# Altium footprint library Connecteur.PcbLib: 164 footprints (part 8 of 11)
Each footprint in its own frame and in the unit in brackets; x right, y up, seen from the top. Pads: shape width x height; smd on the part's side, far side on the other; paste and mask are expansions set on the pad; w line width, h text height; cw(c..) or ccw(c..) is an arc to the next point about the centre after c.
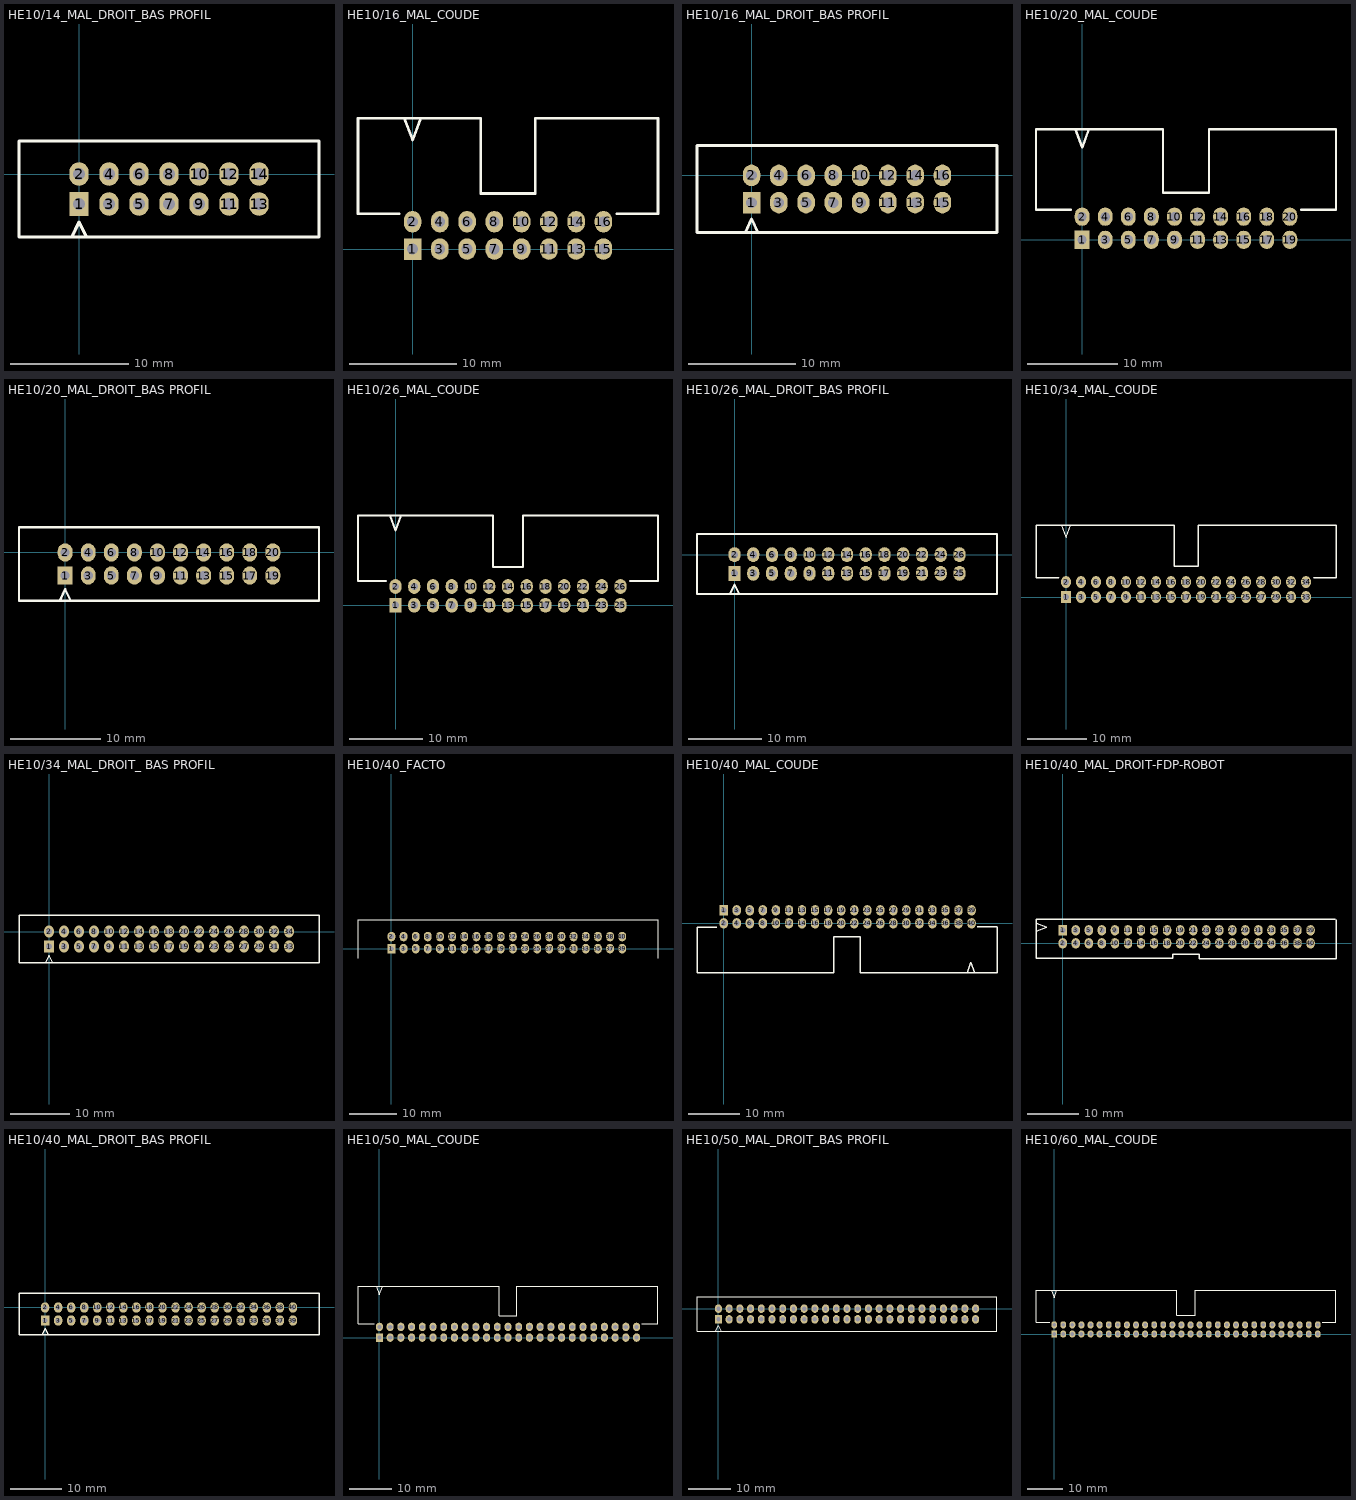
[diagram p7: the footprints below, top view; thin cyan lines are the x and y axes]

## HE10/14_MAL_DROIT_BAS PROFIL [mm] "Connector; HE10; 14 Position; Male; Right Low Profile; Pin Spacing=2.54mm"
height 9
pads (14):
  rect 1.63x2 hole 1: 1(0,-2.54)
  oval 1.63x2 hole 1: 2(0,0) 3(2.54,-2.54) 4(2.54,0) 5(5.08,-2.54) 6(5.08,0) 7(7.62,-2.54) 8(7.62,0) 9(10.16,-2.54) 10(10.16,0) 11(12.7,-2.54) 12(12.7,0) 13(15.24,-2.54) 14(15.24,0)
Top Overlay:
  lines w0.254: -0.6,-5.33 -0.004,-4.064 0,-4.064 0.6,-5.28 ; -5.08,-5.33 20.32,-5.33 20.32,2.79 -5.08,2.79 -5.08,-5.33

## HE10/16_MAL_COUDE [mm] "Connector; HE10; 16 Position; Male; Right Angle; Pin Spacing=2.54mm"
height 9
pads (16):
  rect 1.63x2 hole 1: 1(0,0)
  oval 1.63x2 hole 1: 2(0,2.54) 3(2.54,0) 4(2.54,2.54) 5(5.08,0) 6(5.08,2.54) 7(7.62,0) 8(7.62,2.54) 9(10.16,0) 10(10.16,2.54) 11(12.7,0) 12(12.7,2.54) 13(15.24,0) 14(15.24,2.54) 15(17.78,0) 16(17.78,2.54)
Top Overlay:
  lines w0.254: -1.27,3.29 -5.08,3.29 -5.08,12.18 6.35,12.18 6.35,5.18 11.43,5.18 11.43,12.18 22.86,12.18 22.86,3.29 19.05,3.29 ; -0.762,12.18 0,10.148 0.762,12.18

## HE10/16_MAL_DROIT_BAS PROFIL [mm] "Connector; HE10; 16 Position; Male; Right Low Profile; Pin Spacing=2.54mm"
height 9
pads (16):
  rect 1.63x2 hole 1: 1(0,-2.54)
  oval 1.63x2 hole 1: 2(0,0) 3(2.54,-2.54) 4(2.54,0) 5(5.08,-2.54) 6(5.08,0) 7(7.62,-2.54) 8(7.62,0) 9(10.16,-2.54) 10(10.16,0) 11(12.7,-2.54) 12(12.7,0) 13(15.24,-2.54) 14(15.24,0) 15(17.78,-2.54) 16(17.78,0)
Top Overlay:
  lines w0.254: -0.6,-5.33 -0.004,-4.064 0,-4.064 0.6,-5.28 ; -5.08,-5.33 -5.08,2.79 22.86,2.79 22.86,-5.33 -5.08,-5.33

## HE10/20_MAL_COUDE [mm] "Connector; HE10; 20 Position; Male; Right Angle; Pin Spacing=2.54mm"
height 9
pads (20):
  rect 1.63x2 hole 1: 1(0,0)
  oval 1.63x2 hole 1: 2(0,2.54) 3(2.54,0) 4(2.54,2.54) 5(5.08,0) 6(5.08,2.54) 7(7.62,0) 8(7.62,2.54) 9(10.16,0) 10(10.16,2.54) 11(12.7,0) 12(12.7,2.54) 13(15.24,0) 14(15.24,2.54) 15(17.78,0) 16(17.78,2.54) 17(20.32,0) 18(20.32,2.54) 19(22.86,0) 20(22.86,2.54)
Top Overlay:
  lines w0.254: -1.27,3.29 -5.08,3.29 -5.08,12.18 8.89,12.18 8.89,5.18 13.97,5.18 13.97,12.18 27.94,12.18 27.94,3.29 24.13,3.29 ; -0.762,12.18 0,10.148 0.762,12.18

## HE10/20_MAL_DROIT_BAS PROFIL [mm] "Connector; HE10; 20 Position; Male; Right Low Profile; Pin Spacing=2.54mm"
height 9
pads (20):
  rect 1.63x2 hole 1: 1(0,-2.54)
  oval 1.63x2 hole 1: 2(0,0) 3(2.54,-2.54) 4(2.54,0) 5(5.08,-2.54) 6(5.08,0) 7(7.62,-2.54) 8(7.62,0) 9(10.16,-2.54) 10(10.16,0) 11(12.7,-2.54) 12(12.7,0) 13(15.24,-2.54) 14(15.24,0) 15(17.78,-2.54) 16(17.78,0) 17(20.32,-2.54) 18(20.32,0) 19(22.86,-2.54) 20(22.86,0)
Top Overlay:
  lines w0.254: -0.6,-5.33 -0.004,-4.064 0,-4.064 0.6,-5.28 ; -5.08,-5.33 27.94,-5.33 27.94,2.79 -5.08,2.79 -5.08,-5.33

## HE10/26_MAL_COUDE [mm] "Connector; HE10; 26 Position; Male; Right Angle; Pin Spacing=2.54mm"
height 9
pads (26):
  rect 1.63x2 hole 1: 1(0,0)
  oval 1.63x2 hole 1: 2(0,2.54) 3(2.54,0) 4(2.54,2.54) 5(5.08,0) 6(5.08,2.54) 7(7.62,0) 8(7.62,2.54) 9(10.16,0) 10(10.16,2.54) 11(12.7,0) 12(12.7,2.54) 13(15.24,0) 14(15.24,2.54) 15(17.78,0) 16(17.78,2.54) 17(20.32,0) 18(20.32,2.54) 19(22.86,0) 20(22.86,2.54) 21(25.4,0) 22(25.4,2.54) 23(27.94,0) 24(27.94,2.54) 25(30.48,0) 26(30.48,2.54)
Top Overlay:
  lines w0.254: -1.27,3.29 -5.08,3.29 -5.08,12.18 13.208,12.18 13.208,5.18 17.272,5.18 17.272,12.18 35.56,12.18 35.56,3.29 31.75,3.29 ; -0.762,12.18 0,10.148 0.762,12.18

## HE10/26_MAL_DROIT_BAS PROFIL [mm] "Connector; HE10; 26 Position; Male; Right Low Profile; Pin Spacing=2.54mm"
height 9
pads (26):
  rect 1.63x2 hole 1: 1(0,-2.54)
  oval 1.63x2 hole 1: 2(0,0) 3(2.54,-2.54) 4(2.54,0) 5(5.08,-2.54) 6(5.08,0) 7(7.62,-2.54) 8(7.62,0) 9(10.16,-2.54) 10(10.16,0) 11(12.7,-2.54) 12(12.7,0) 13(15.24,-2.54) 14(15.24,0) 15(17.78,-2.54) 16(17.78,0) 17(20.32,-2.54) 18(20.32,0) 19(22.86,-2.54) 20(22.86,0) 21(25.4,-2.54) 22(25.4,0) 23(27.94,-2.54) 24(27.94,0) 25(30.48,-2.54) 26(30.48,0)
Top Overlay:
  lines w0.254: -0.6,-5.33 -0.004,-4.064 0,-4.064 0.6,-5.28 ; -5.08,-5.33 -5.08,2.79 35.56,2.79 35.56,-5.33 -5.08,-5.33

## HE10/34_MAL_COUDE [mm] "Connector; HE10; 34 Position; Male; Right Angle; Pin Spacing=2.54mm"
height 9
pads (34):
  rect 1.63x2 hole 1: 1(0,0)
  oval 1.63x2 hole 1: 2(0,2.54) 3(2.54,0) 4(2.54,2.54) 5(5.08,0) 6(5.08,2.54) 7(7.62,0) 8(7.62,2.54) 9(10.16,0) 10(10.16,2.54) 11(12.7,0) 12(12.7,2.54) 13(15.24,0) 14(15.24,2.54) 15(17.78,0) 16(17.78,2.54) 17(20.32,0) 18(20.32,2.54) 19(22.86,0) 20(22.86,2.54) 21(25.4,0) 22(25.4,2.54) 23(27.94,0) 24(27.94,2.54) 25(30.48,0) 26(30.48,2.54) 27(33.02,0) 28(33.02,2.54) 29(35.56,0) 30(35.56,2.54) 31(38.1,0) 32(38.1,2.54) 33(40.64,0) 34(40.64,2.54)
Top Overlay:
  lines w0.254: -1.27,3.29 -5.08,3.29 -5.08,12.18 18.288,12.18 18.288,5.18 22.352,5.18 22.352,12.18 45.72,12.18 45.72,3.29 41.91,3.29 ; -0.762,12.18 0,10.148 0.762,12.18

## HE10/34_MAL_DROIT_ BAS PROFIL [mm] "Connector; HE10; 34 Position; Male; Right Low Profile; Pin Spacing=2.54mm"
height 9
pads (34):
  rect 1.63x2 hole 1: 1(0,-2.54)
  oval 1.63x2 hole 1: 2(0,0) 3(2.54,-2.54) 4(2.54,0) 5(5.08,-2.54) 6(5.08,0) 7(7.62,-2.54) 8(7.62,0) 9(10.16,-2.54) 10(10.16,0) 11(12.7,-2.54) 12(12.7,0) 13(15.24,-2.54) 14(15.24,0) 15(17.78,-2.54) 16(17.78,0) 17(20.32,-2.54) 18(20.32,0) 19(22.86,-2.54) 20(22.86,0) 21(25.4,-2.54) 22(25.4,0) 23(27.94,-2.54) 24(27.94,0) 25(30.48,-2.54) 26(30.48,0) 27(33.02,-2.54) 28(33.02,0) 29(35.56,-2.54) 30(35.56,0) 31(38.1,-2.54) 32(38.1,0) 33(40.64,-2.54) 34(40.64,0)
Top Overlay:
  lines w0.254: -0.6,-5.33 -0.004,-4.064 0,-4.064 0.6,-5.28 ; -5.08,-5.33 45.72,-5.33 45.72,2.79 -5.08,2.79 -5.08,-5.33

## HE10/40_FACTO [mm] "Connector; HE10; 40 Position; Male; Right Angle; Pin Spacing=2.54mm"
height 9
pads (40):
  rect 1.63x2 hole 1.016: 1(0,0)
  oval 1.63x2 hole 1.016: 2(0,2.54) 3(2.54,0) 4(2.54,2.54) 5(5.08,0) 6(5.08,2.54) 7(7.62,0) 8(7.62,2.54) 9(10.16,0) 10(10.16,2.54) 11(12.7,0) 12(12.7,2.54) 13(15.24,0) 14(15.24,2.54) 15(17.78,0) 16(17.78,2.54) 17(20.32,0) 18(20.32,2.54) 19(22.86,0) 20(22.86,2.54) 21(25.4,0) 22(25.4,2.54) 23(27.94,0) 24(27.94,2.54) 25(30.48,0) 26(30.48,2.54) 27(33.02,0) 28(33.02,2.54) 29(35.56,0) 30(35.56,2.54) 31(38.1,0) 32(38.1,2.54) 33(40.64,0) 34(40.64,2.54) 35(43.18,0) 36(43.18,2.54) 37(45.72,0) 38(45.72,2.54) 39(48.26,0) 40(48.26,2.54)
Top Overlay:
  lines w0.254: -6.985,-2.032 -6.985,6.096 55.753,6.096 55.753,-2.032
3D body: height 8.5, standoff 0, extent -7.116,-2.159 55.884,12.341

## HE10/40_MAL_COUDE [mm] "Connector; HE10; 40 Position; Male; Right Angle; Pin Spacing=2.54mm"
height 9
pads (40):
  rect 1.63x2 hole 1.016: 1(0,2.54)
  oval 1.63x2 hole 1.016: 2(0,0) 3(2.54,2.54) 4(2.54,0) 5(5.08,2.54) 6(5.08,0) 7(7.62,2.54) 8(7.62,0) 9(10.16,2.54) 10(10.16,0) 11(12.7,2.54) 12(12.7,0) 13(15.24,2.54) 14(15.24,0) 15(17.78,2.54) 16(17.78,0) 17(20.32,2.54) 18(20.32,0) 19(22.86,2.54) 20(22.86,0) 21(25.4,2.54) 22(25.4,0) 23(27.94,2.54) 24(27.94,0) 25(30.48,2.54) 26(30.48,0) 27(33.02,2.54) 28(33.02,0) 29(35.56,2.54) 30(35.56,0) 31(38.1,2.54) 32(38.1,0) 33(40.64,2.54) 34(40.64,0) 35(43.18,2.54) 36(43.18,0) 37(45.72,2.54) 38(45.72,0) 39(48.26,2.54) 40(48.26,0)
Top Overlay:
  lines w0.254: -1.397,-0.75 -5.207,-0.75 -5.207,-9.64 21.463,-9.64 21.463,-2.64 26.543,-2.64 26.543,-9.64 53.213,-9.64 53.213,-0.75 ; 47.371,-9.64 48.133,-7.608 48.895,-9.64 ; 49.403,-0.635 53.213,-0.635
3D body: height 8.5, standoff 0, extent -7.624,-9.801 55.376,4.699

## HE10/40_MAL_DROIT-FDP-ROBOT [mm] "Connector; HE10; 40 Position; Male; Right Angle; Pin Spacing=2.54mm"
height 9
pads (40):
  rect 1.63x2 hole 1.016: 1(0,2.54)
  oval 1.63x2 hole 1.016: 2(0,0) 3(2.54,2.54) 4(2.54,0) 5(5.08,2.54) 6(5.08,0) 7(7.62,2.54) 8(7.62,0) 9(10.16,2.54) 10(10.16,0) 11(12.7,2.54) 12(12.7,0) 13(15.24,2.54) 14(15.24,0) 15(17.78,2.54) 16(17.78,0) 17(20.32,2.54) 18(20.32,0) 19(22.86,2.54) 20(22.86,0) 21(25.4,2.54) 22(25.4,0) 23(27.94,2.54) 24(27.94,0) 25(30.48,2.54) 26(30.48,0) 27(33.02,2.54) 28(33.02,0) 29(35.56,2.54) 30(35.56,0) 31(38.1,2.54) 32(38.1,0) 33(40.64,2.54) 34(40.64,0) 35(43.18,2.54) 36(43.18,0) 37(45.72,2.54) 38(45.72,0) 39(48.26,2.54) 40(48.26,0)
Top Overlay:
  lines w0.254: -5.119,2.362 -3.087,3.124 -5.119,3.886 ; 53.111,4.699 -5.207,4.699 -5.207,-2.946 21.463,-2.946 21.463,-2.083 26.543,-2.083 26.543,-3.023 53.213,-3.023 53.213,4.597
3D body: height 10, standoff 0, extent -5.207,-3.124 53.289,4.699

## HE10/40_MAL_DROIT_BAS PROFIL [mm] "Connector; HE10; 40 Position; Male; Right Low Profile; Pin Spacing=2.54mm"
height 9
pads (40):
  rect 1.63x2 hole 1: 1(0,-2.54)
  oval 1.63x2 hole 1: 2(0,0) 3(2.54,-2.54) 4(2.54,0) 5(5.08,-2.54) 6(5.08,0) 7(7.62,-2.54) 8(7.62,0) 9(10.16,-2.54) 10(10.16,0) 11(12.7,-2.54) 12(12.7,0) 13(15.24,-2.54) 14(15.24,0) 15(17.78,-2.54) 16(17.78,0) 17(20.32,-2.54) 18(20.32,0) 19(22.86,-2.54) 20(22.86,0) 21(25.4,-2.54) 22(25.4,0) 23(27.94,-2.54) 24(27.94,0) 25(30.48,-2.54) 26(30.48,0) 27(33.02,-2.54) 28(33.02,0) 29(35.56,-2.54) 30(35.56,0) 31(38.1,-2.54) 32(38.1,0) 33(40.64,-2.54) 34(40.64,0) 35(43.18,-2.54) 36(43.18,0) 37(45.72,-2.54) 38(45.72,0) 39(48.26,-2.54) 40(48.26,0)
Top Overlay:
  lines w0.254: -0.6,-5.33 -0.004,-4.064 0,-4.064 0.6,-5.28 ; -5.08,-5.33 -5.08,2.79 53.34,2.79 53.34,-5.33 -5.08,-5.33

## HE10/50_MAL_COUDE [mm] "Connector; HE10; 50 Position; Male; Right Angle; Pin Spacing=2.54mm"
height 9
pads (50):
  rect 1.63x2 hole 1: 1(0,0)
  oval 1.63x2 hole 1: 2(0,2.54) 3(2.54,0) 4(2.54,2.54) 5(5.08,0) 6(5.08,2.54) 7(7.62,0) 8(7.62,2.54) 9(10.16,0) 10(10.16,2.54) 11(12.7,0) 12(12.7,2.54) 13(15.24,0) 14(15.24,2.54) 15(17.78,0) 16(17.78,2.54) 17(20.32,0) 18(20.32,2.54) 19(22.86,0) 20(22.86,2.54) 21(25.4,0) 22(25.4,2.54) 23(27.94,0) 24(27.94,2.54) 25(30.48,0) 26(30.48,2.54) 27(33.02,0) 28(33.02,2.54) 29(35.56,0) 30(35.56,2.54) 31(38.1,0) 32(38.1,2.54) 33(40.64,0) 34(40.64,2.54) 35(43.18,0) 36(43.18,2.54) 37(45.72,0) 38(45.72,2.54) 39(48.26,0) 40(48.26,2.54) 41(50.8,0) 42(50.8,2.54) 43(53.34,0) 44(53.34,2.54) 45(55.88,0) 46(55.88,2.54) 47(58.42,0) 48(58.42,2.54) 49(60.96,0) 50(60.96,2.54)
Top Overlay:
  lines w0.254: -1.27,3.29 -5.08,3.29 -5.08,12.18 28.448,12.18 28.448,5.18 32.512,5.18 32.512,12.18 66.04,12.18 66.04,3.29 62.23,3.29 ; -0.762,12.18 0,10.148 0.762,12.18

## HE10/50_MAL_DROIT_BAS PROFIL [mm] "Connector; HE10; 50 Position; Male; Right Low Profile; Pin Spacing=2.54mm"
height 9
pads (50):
  rect 1.63x2 hole 1: 1(0,-2.54)
  oval 1.63x2 hole 1: 2(0,0) 3(2.54,-2.54) 4(2.54,0) 5(5.08,-2.54) 6(5.08,0) 7(7.62,-2.54) 8(7.62,0) 9(10.16,-2.54) 10(10.16,0) 11(12.7,-2.54) 12(12.7,0) 13(15.24,-2.54) 14(15.24,0) 15(17.78,-2.54) 16(17.78,0) 17(20.32,-2.54) 18(20.32,0) 19(22.86,-2.54) 20(22.86,0) 21(25.4,-2.54) 22(25.4,0) 23(27.94,-2.54) 24(27.94,0) 25(30.48,-2.54) 26(30.48,0) 27(33.02,-2.54) 28(33.02,0) 29(35.56,-2.54) 30(35.56,0) 31(38.1,-2.54) 32(38.1,0) 33(40.64,-2.54) 34(40.64,0) 35(43.18,-2.54) 36(43.18,0) 37(45.72,-2.54) 38(45.72,0) 39(48.26,-2.54) 40(48.26,0) 41(50.8,-2.54) 42(50.8,0) 43(53.34,-2.54) 44(53.34,0) 45(55.88,-2.54) 46(55.88,0) 47(58.42,-2.54) 48(58.42,0) 49(60.96,-2.54) 50(60.96,0)
Top Overlay:
  lines w0.254: -0.6,-5.33 -0.004,-4.064 0,-4.064 0.6,-5.28 ; -5.08,-5.33 -5.08,2.79 66.04,2.79 66.04,-5.33 -5.08,-5.33

## HE10/60_MAL_COUDE [mm] "Connector; HE10; 60 Position; Male; Right Angle; Pin Spacing=2.54mm"
height 9
pads (60):
  rect 1.63x2 hole 1: 1(0,0)
  oval 1.63x2 hole 1: 2(0,2.54) 3(2.54,0) 4(2.54,2.54) 5(5.08,0) 6(5.08,2.54) 7(7.62,0) 8(7.62,2.54) 9(10.16,0) 10(10.16,2.54) 11(12.7,0) 12(12.7,2.54) 13(15.24,0) 14(15.24,2.54) 15(17.78,0) 16(17.78,2.54) 17(20.32,0) 18(20.32,2.54) 19(22.86,0) 20(22.86,2.54) 21(25.4,0) 22(25.4,2.54) 23(27.94,0) 24(27.94,2.54) 25(30.48,0) 26(30.48,2.54) 27(33.02,0) 28(33.02,2.54) 29(35.56,0) 30(35.56,2.54) 31(38.1,0) 32(38.1,2.54) 33(40.64,0) 34(40.64,2.54) 35(43.18,0) 36(43.18,2.54) 37(45.72,0) 38(45.72,2.54) 39(48.26,0) 40(48.26,2.54) 41(50.8,0) 42(50.8,2.54) 43(53.34,0) 44(53.34,2.54) 45(55.88,0) 46(55.88,2.54) 47(58.42,0) 48(58.42,2.54) 49(60.96,0) 50(60.96,2.54) 51(63.5,0) 52(63.5,2.54) 53(66.04,0) 54(66.04,2.54) 55(68.58,0) 56(68.58,2.54) 57(71.12,0) 58(71.12,2.54) 59(73.66,0) 60(73.66,2.54)
Top Overlay:
  lines w0.254: -1.27,3.29 -5.08,3.29 -5.08,12.18 34.29,12.18 34.29,5.18 39.37,5.18 39.37,12.18 78.74,12.18 78.74,3.29 74.942,3.29 ; -0.762,12.18 0,10.148 0.762,12.18